# Altium schematic symbol library LED.SchLib: 12 symbols
Pins are listed as number, name and electrical type; pins without a type are passive.

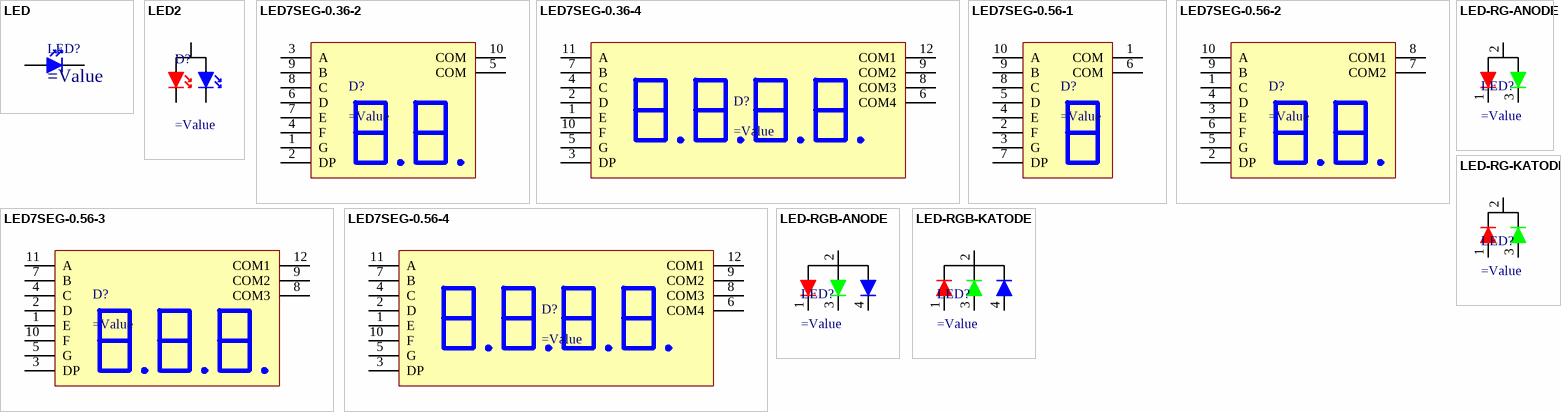
[diagram p0: symbols LED to LED-RGB-KATODE]

## LED
designator LED?
=Description
pins: 1 A, 2 K

## LED2
designator D?
=Description
pins: 1 A, 2 K1, 3 K2

## LED7SEG-0.36-2
designator D?
=Description
pins: 1 G, 2 DP, 3 A, 4 F, 5 COM, 6 D, 7 E, 8 C, 9 B, 10 COM

## LED7SEG-0.36-4
designator D?
=Description
pins: 1 E, 2 D, 3 DP, 4 C, 5 G, 6 COM4, 7 B, 8 COM3, 9 COM2, 10 F, 11 A, 12 COM1

## LED7SEG-0.56-1
designator D?
=Description
pins: 1 COM, 2 F, 3 G, 4 E, 5 D, 6 COM, 7 DP, 8 C, 9 B, 10 A

## LED7SEG-0.56-2
designator D?
=Description
pins: 1 C, 2 DP, 3 E, 4 D, 5 G, 6 F, 7 COM2, 8 COM1, 9 B, 10 A

## LED7SEG-0.56-3
designator D?
=Description
pins: 1 E, 2 D, 3 DP, 4 C, 5 G, 7 B, 8 COM3, 9 COM2, 10 F, 11 A, 12 COM1

## LED7SEG-0.56-4
designator D?
=Description
pins: 1 E, 2 D, 3 DP, 4 C, 5 G, 6 COM4, 7 B, 8 COM3, 9 COM2, 10 F, 11 A, 12 COM1

## LED-RG-ANODE
designator LED?
=Description
pins: 1 RED, 2 COM, 3 GREEN

## LED-RG-KATODE
designator LED?
=Description
pins: 1 RED, 2 COM, 3 GREEN

## LED-RGB-ANODE
designator LED?
=Description
pins: 1 RED, 2 COM, 3 GREEN, 4 BLUE

## LED-RGB-KATODE
designator LED?
=Description
pins: 1 RED, 2 COM, 3 GREEN, 4 BLUE